# Altium footprint library PcbLib1.PcbLib: 1 footprints
Each footprint in its own frame and in the unit in brackets; x right, y up, seen from the top. Pads: shape width x height; smd on the part's side, far side on the other; paste and mask are expansions set on the pad; w line width, h text height; cw(c..) or ccw(c..) is an arc to the next point about the centre after c.
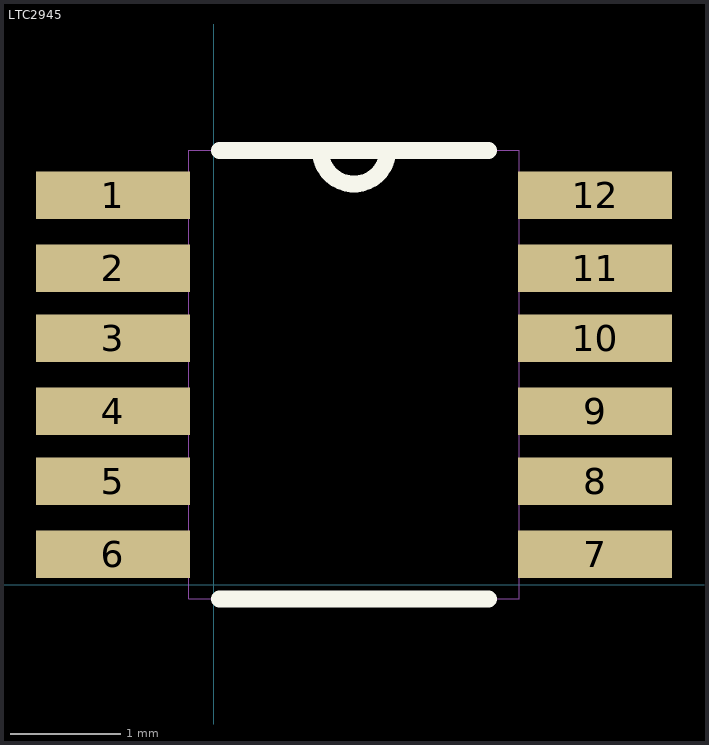
[diagram p0: the footprint, top view; thin cyan lines are the x and y axes]

## LTC2945 [mil]
pads (12):
  rect 55x17 smd: 1(-36,139) 2(-36,113) 3(-36,88) 4(-36,62) 5(-36,37) 6(-36,11) 7(136,11) 8(136,37) 9(136,62) 10(136,88) 11(136,113) 12(136,139)
Top Overlay:
  lines w6: 2,-5 98,-5 ; 2,155 38,155 ; 98,155 62,155 ; 38,155 ccw(c50,155) 62,155 ; 38,155 62,155
Mechanical 16:
  lines w0: 38,155 ccw(c50,155) 62,155 ; 38,155 62,155 ; 38,155 -9,155 -9,-5 109,-5 109,155 62,155 ; -49,4 -49,18 -9,18 -9,4 -49,4 ; -49,29 -49,44 -9,44 -9,29 -49,29 ; -49,55 -49,70 -9,70 -9,55 -49,55 ; -49,80 -49,95 -9,95 -9,80 -49,80 ; -49,106 -49,121 -9,121 -9,106 -49,106 ; -49,132 -49,146 -9,146 -9,132 -49,132 ; 109,4 109,18 149,18 149,4 109,4 ; 109,29 109,44 149,44 149,29 109,29 ; 109,55 109,70 149,70 149,55 109,55 ; 109,80 109,95 149,95 149,80 109,80 ; 109,106 109,121 149,121 149,106 109,106 ; 109,132 109,146 149,146 149,132 109,132